# EAGLE library part STM32F723VET6 (library tecsmith_stm32)
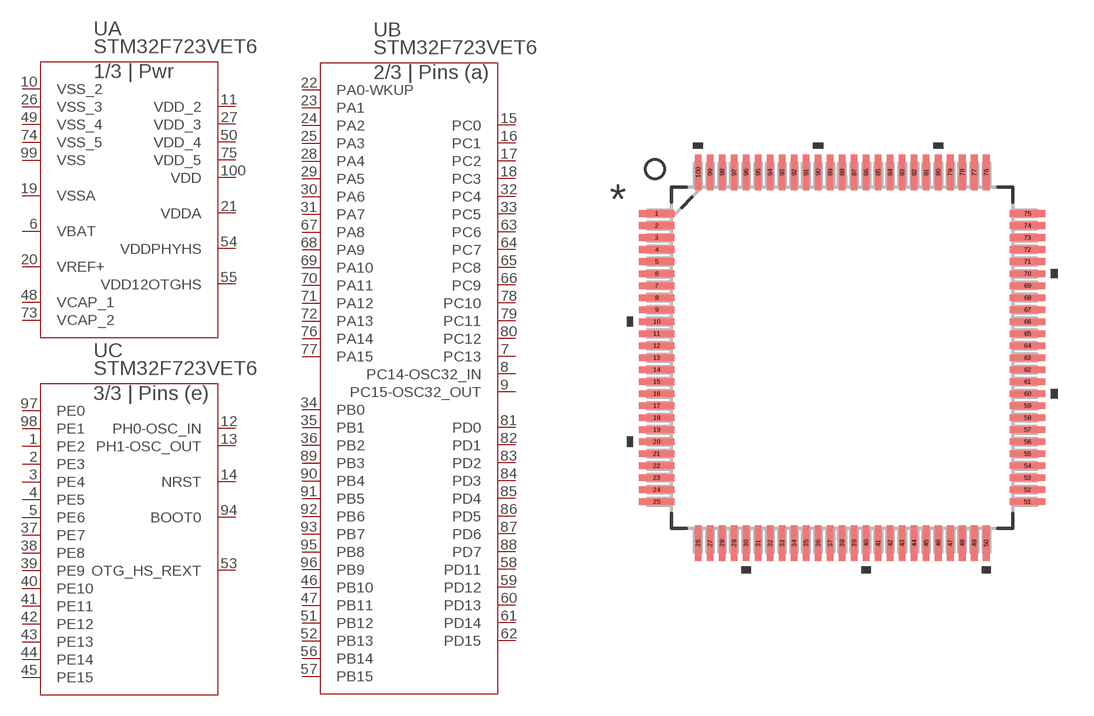
[diagram p4: symbol with the pads of LQFP100_14X14MM; footprint LQFP100_14X14MM]

Designator prefix U; gates B=STM32F723VET6_1 C=STM32F723VET6_2 A=STM32F723VET6

## STM32F723VET6 (MANUFACTURER_PART_NUMBER: STM32F723VET6; MFR_NAME: STMicroelectronics)  [LQFP100_14X14MM]
1  C:PE2
2  C:PE3
3  C:PE4
4  C:PE5
5  C:PE6
6  A:VBAT  pwr
7  B:PC13
8  B:PC14-OSC32_IN
9  B:PC15-OSC32_OUT
10  A:VSS_2  pwr
11  A:VDD_2  pwr
12  C:PH0-OSC_IN
13  C:PH1-OSC_OUT
14  C:NRST
15  B:PC0
16  B:PC1
17  B:PC2
18  B:PC3
19  A:VSSA  pwr
20  A:VREF+  pwr
21  A:VDDA  pwr
22  B:PA0-WKUP
23  B:PA1
24  B:PA2
25  B:PA3
26  A:VSS_3  pwr
27  A:VDD_3  pwr
28  B:PA4
29  B:PA5
30  B:PA6
31  B:PA7
32  B:PC4
33  B:PC5
34  B:PB0
35  B:PB1
36  B:PB2
37  C:PE7
38  C:PE8
39  C:PE9
40  C:PE10
41  C:PE11
42  C:PE12
43  C:PE13
44  C:PE14
45  C:PE15
46  B:PB10
47  B:PB11
48  A:VCAP_1  pwr
49  A:VSS_4  pwr
50  A:VDD_4  pwr
51  B:PB12
52  B:PB13
53  C:OTG_HS_REXT
54  A:VDDPHYHS  pwr
55  A:VDD12OTGHS  pwr
56  B:PB14
57  B:PB15
58  B:PD11
59  B:PD12
60  B:PD13
61  B:PD14
62  B:PD15
63  B:PC6
64  B:PC7
65  B:PC8
66  B:PC9
67  B:PA8
68  B:PA9
69  B:PA10
70  B:PA11
71  B:PA12
72  B:PA13
73  A:VCAP_2  pwr
74  A:VSS_5  pwr
75  A:VDD_5  pwr
76  B:PA14
77  B:PA15
78  B:PC10
79  B:PC11
80  B:PC12
81  B:PD0
82  B:PD1
83  B:PD2
84  B:PD3
85  B:PD4
86  B:PD5
87  B:PD6
88  B:PD7
89  B:PB3
90  B:PB4
91  B:PB5
92  B:PB6
93  B:PB7
94  C:BOOT0  in
95  B:PB8
96  B:PB9
97  C:PE0
98  C:PE1
99  A:VSS  pwr
100  A:VDD  pwr

## Footprint LQFP100_14X14MM (pad centres in mm)
smd 1.473 x 0.279: 1 -7.722,6; 2 -7.722,5.5; 3 -7.722,5; 4 -7.722,4.5; 5 -7.722,4; 6 -7.722,3.5; 7 -7.722,3; 8 -7.722,2.5; 9 -7.722,2; 10 -7.722,1.5; 11 -7.722,1; 12 -7.722,0.5; 13 -7.722,0; 14 -7.722,-0.5; 15 -7.722,-1; 16 -7.722,-1.5; 17 -7.722,-2; 18 -7.722,-2.5; 19 -7.722,-3; 20 -7.722,-3.5; 21 -7.722,-4; 22 -7.722,-4.5; 23 -7.722,-5; 24 -7.722,-5.5; 25 -7.722,-6; 51 7.722,-6; 52 7.722,-5.5; 53 7.722,-5; 54 7.722,-4.5; 55 7.722,-4; 56 7.722,-3.5; 57 7.722,-3; 58 7.722,-2.5; 59 7.722,-2; 60 7.722,-1.5; 61 7.722,-1; 62 7.722,-0.5; 63 7.722,0; 64 7.722,0.5; 65 7.722,1; 66 7.722,1.5; 67 7.722,2; 68 7.722,2.5; 69 7.722,3; 70 7.722,3.5; 71 7.722,4; 72 7.722,4.5; 73 7.722,5; 74 7.722,5.5; 75 7.722,6
smd 0.279 x 1.473: 26 -6,-7.722; 27 -5.5,-7.722; 28 -5,-7.722; 29 -4.5,-7.722; 30 -4,-7.722; 31 -3.5,-7.722; 32 -3,-7.722; 33 -2.5,-7.722; 34 -2,-7.722; 35 -1.5,-7.722; 36 -1,-7.722; 37 -0.5,-7.722; 38 0,-7.722; 39 0.5,-7.722; 40 1,-7.722; 41 1.5,-7.722; 42 2,-7.722; 43 2.5,-7.722; 44 3,-7.722; 45 3.5,-7.722; 46 4,-7.722; 47 4.5,-7.722; 48 5,-7.722; 49 5.5,-7.722; 50 6,-7.722; 76 6,7.722; 77 5.5,7.722; 78 5,7.722; 79 4.5,7.722; 80 4,7.722; 81 3.5,7.722; 82 3,7.722; 83 2.5,7.722; 84 2,7.722; 85 1.5,7.722; 86 1,7.722; 87 0.5,7.722; 88 0,7.722; 89 -0.5,7.722; 90 -1,7.722; 91 -1.5,7.722; 92 -2,7.722; 93 -2.5,7.722; 94 -3,7.722; 95 -3.5,7.722; 96 -4,7.722; 97 -4.5,7.722; 98 -5,7.722; 99 -5.5,7.722; 100 -6,7.722